# EAGLE library part AD9224 (library ad9224)
12 Bit A/D
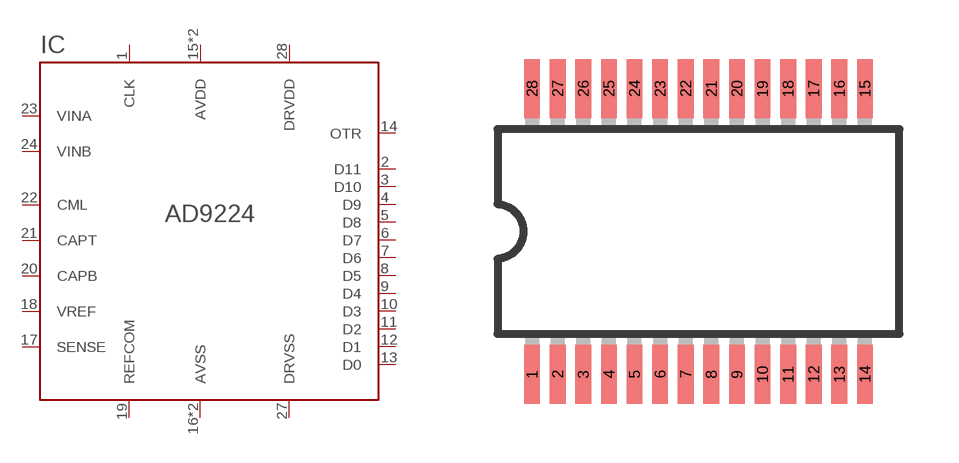
[diagram p0: symbol with the pads of SSOP28; footprint SSOP28]

Designator prefix IC

## AD9224  [SSOP28]
1  CLK  in
2  D11  pwr
3  D10
4  D9  out
5  D8  out
6  D7  out
7  D6  out
8  D5  out
9  D4  out
10  D3  out
11  D2  out
12  D1  out
13  D0  out
14  OTR  nc
15  AVDD  pwr
16  AVSS  pwr
17  SENSE  out
18  VREF
19  REFCOM  pwr
20  CAPB
21  CAPT
22  CML
23  VINA  in
24  VINB
25  AVSS  pwr
26  AVDD  pwr
27  DRVSS  pwr
28  DRVDD  pwr

## Footprint SSOP28 (pad centres in mm)
28-Lead Shrink Small Outline Package SSOP (RS-28) Source: http://www.analog.com/UploadedFiles/Data_Sheets/39677768AD7714_c.pdf
smd 0.4 x 1.5: 1 -4.225,-3.625; 2 -3.575,-3.625; 3 -2.925,-3.625; 4 -2.275,-3.625; 5 -1.625,-3.625; 6 -0.975,-3.625; 7 -0.325,-3.625; 8 0.325,-3.625; 9 0.975,-3.625; 10 1.625,-3.625; 11 2.275,-3.625; 12 2.925,-3.625; 13 3.575,-3.625; 14 4.225,-3.625; 15 4.225,3.625; 16 3.575,3.625; 17 2.925,3.625; 18 2.275,3.625; 19 1.625,3.625; 20 0.975,3.625; 21 0.325,3.625; 22 -0.325,3.625; 23 -0.975,3.625; 24 -1.625,3.625; 25 -2.275,3.625; 26 -2.925,3.625; 27 -3.575,3.625; 28 -4.225,3.625